# Altium footprint library J_JAT_A1250WV-S-06P.PcbLib: 1 footprints
Each footprint in its own frame and in the unit in brackets; x right, y up, seen from the top. Pads: shape width x height; smd on the part's side, far side on the other; paste and mask are expansions set on the pad; w line width, h text height; cw(c..) or ccw(c..) is an arc to the next point about the centre after c.
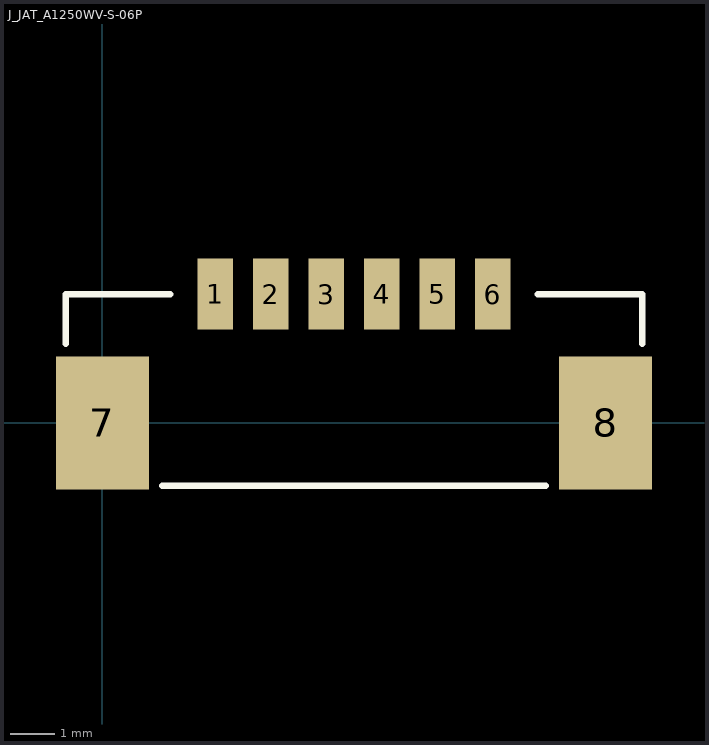
[diagram p0: the footprint, top view; thin cyan lines are the x and y axes]

## J_JAT_A1250WV-S-06P [mm]
pads (8):
  rect 0.8x1.6 smd: 1(2.55,2.9) 2(3.8,2.9) 3(5.05,2.9) 4(6.3,2.9) 5(7.55,2.9) 6(8.8,2.9)
  rect 2.1x3 smd: 7(0,0) 8(11.35,0)
Top Overlay:
  lines w0.152: -0.825,1.786 -0.825,2.9 1.534,2.9 ; 1.35,-1.418 10,-1.418 ; 9.816,2.9 12.175,2.9 12.175,1.786
3D body: height 4.77, standoff -0.03, extent -0.396,-1.367 11.754,3.533